# Altium footprint library RF_Comp.PcbLib: 10 footprints
Each footprint in its own frame and in the unit in brackets; x right, y up, seen from the top. Pads: shape width x height; smd on the part's side, far side on the other; paste and mask are expansions set on the pad; w line width, h text height; cw(c..) or ccw(c..) is an arc to the next point about the centre after c.
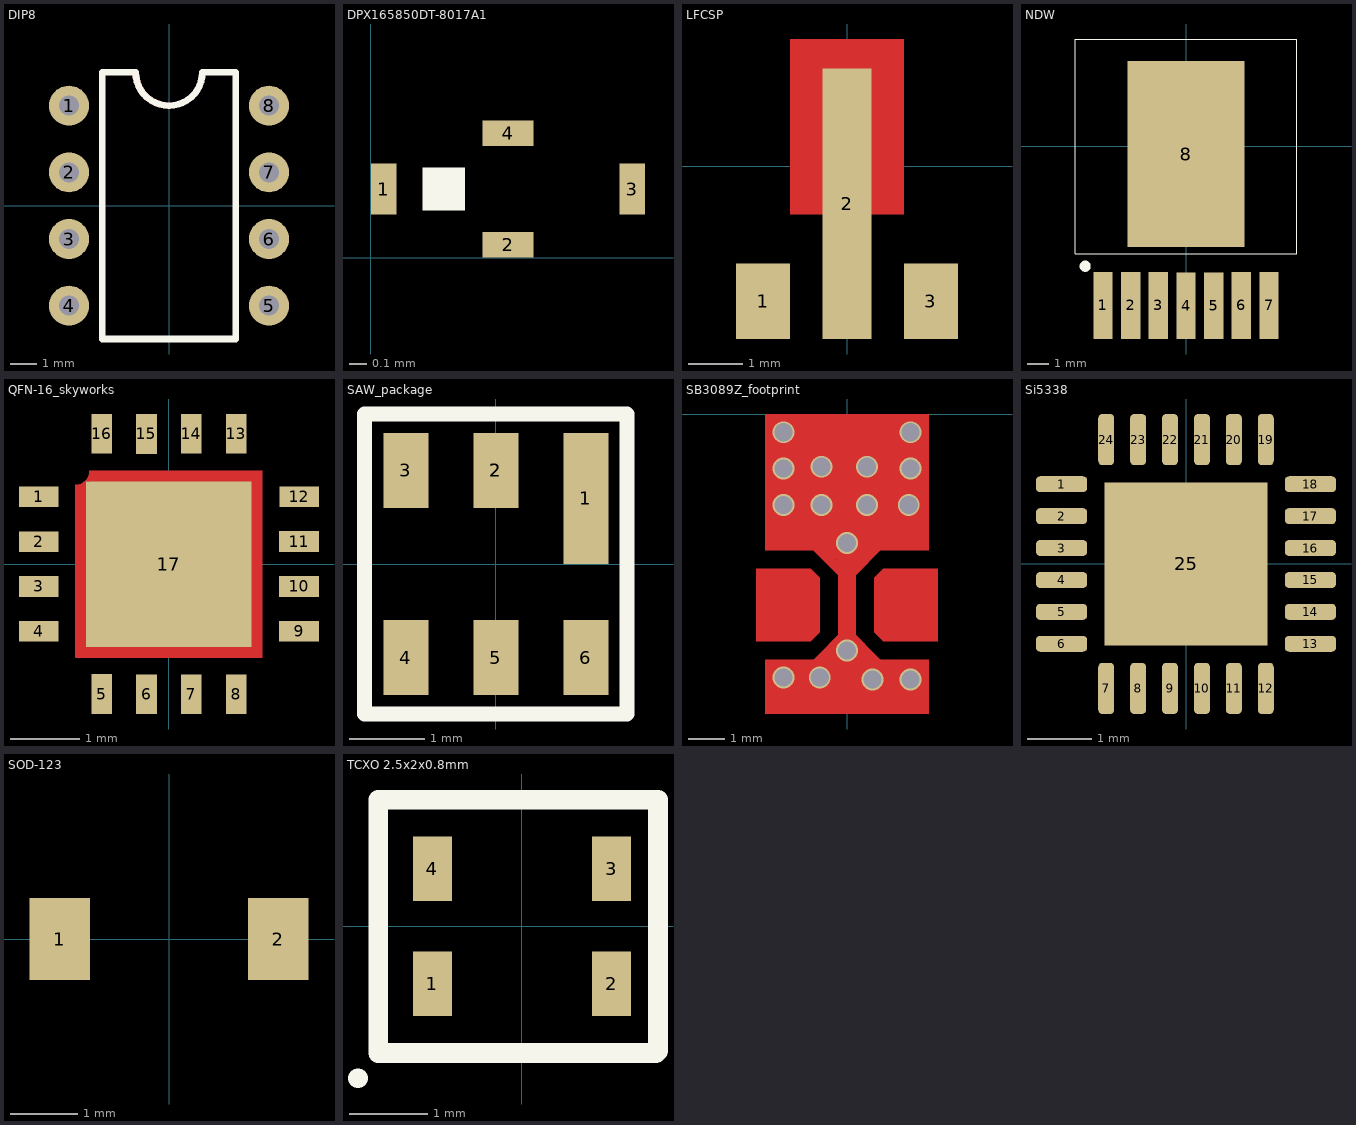
[diagram p0: the footprints below, top view; thin cyan lines are the x and y axes]

## DIP8 [mil]
pads (8):
  round 60 hole 30: 1(-150,150) 2(-150,50) 3(-150,-50) 4(-150,-150) 5(150,-150) 6(150,-50) 7(150,50) 8(150,150)
Top Layer:
  lines w10: -50,200 ccw(c0,200) 0,150
Top Overlay:
  lines w10: -100,-200 -100,200 -50,200 ccw(c0,200) 0,150 ccw(c0,200) 50,200 100,200 100,-200 -100,-200

## DPX165850DT-8017A1 [mm] "Multilayer Diplexer"
pads (4):
  rect 0.15x0.3 smd: 1(0.075,0.4) 3(1.525,0.4)
  rect 0.3x0.15 smd: 2(0.8,0.075) 4(0.8,0.725)
Top Overlay:
  rectangle: 0.3,0.275 0.55,0.525

## LFCSP [mm]
pads (3):
  rect 1x1.4 smd: 1(-1.55,-2.5) 3(1.55,-2.5)
  rect 0.9x5 smd: 2(0,-0.7)
Top Layer:
  rectangle: -1.05,-0.9 1.05,2.35
Top Paste:
  rectangle: -1.05,-0.9 1.05,2.35
Top Solder:
  rectangle: -1.05,-0.9 1.05,2.35

## NDW [mm]
pads (8):
  rect 0.89x3.06 smd: 1(-3.81,-7.3) 2(-2.54,-7.3) 3(-1.27,-7.3) 4(0,-7.31) 5(1.27,-7.31) 6(2.54,-7.3) 7(3.81,-7.3)
  rect 5.35x8.54 smd: 8(0,-0.355)
Top Overlay:
  circle w0.254: c-4.625,-5.5 r0.127
  lines w0.01: -5.08,-4.925 5.08,-4.925 5.08,4.925 -5.08,4.925 -5.08,-4.925

## QFN-16_skyworks [mm]
pads (17):
  rect 0.575x0.3 smd: 1(-1.887,0.975) 2(-1.887,0.324) 3(-1.887,-0.325) 4(-1.887,-0.975) 9(1.887,-0.975) 10(1.887,-0.325) 11(1.887,0.327) 12(1.889,0.975)
  rect 0.3x0.575 smd: 5(-0.975,-1.886) 6(-0.325,-1.888) 7(0.325,-1.888) 8(0.975,-1.888) 13(0.975,1.889) 14(0.325,1.889) 15(-0.326,1.887) 16(-0.975,1.888)
  rect 2.4x2.4 smd: 17(0,0)
Top Layer:
  rectangle: -1.15,1.125 1.35,1.35
  rectangle: 1.175,-1.35 1.35,1.125
  rectangle: -1.35,-1.35 1.175,-1.125
  rectangle: -1.35,-1.225 -1.125,1.15
  rectangle: -1.306,1.15 -1.19,1.156
  rectangle: -1.289,1.154 -1.188,1.162
  rectangle: -1.269,1.157 -1.182,1.169
  rectangle: -1.257,1.166 -1.175,1.175
  rectangle: -1.245,1.173 -1.181,1.181
  rectangle: -1.24,1.178 -1.185,1.185
  rectangle: -1.231,1.183 -1.19,1.191
  rectangle: -1.223,1.187 -1.193,1.195
  rectangle: -1.219,1.187 -1.187,1.202
  rectangle: -1.213,1.197 -1.149,1.209
  rectangle: -1.205,1.201 -1.124,1.214
  rectangle: -1.198,1.203 -1.119,1.222
  rectangle: -1.192,1.214 -1.127,1.231
  rectangle: -1.184,1.22 -1.131,1.24
  rectangle: -1.18,1.229 -1.131,1.247
  rectangle: -1.178,1.235 -1.13,1.251
  rectangle: -1.171,1.246 -1.133,1.267
  rectangle: -1.163,1.259 -1.142,1.283
  rectangle: -1.157,1.276 -1.146,1.305
  lines w0.01: -1.35,-1.35 1.35,-1.35 1.35,1.35 -1.15,1.35 cw(c-1.35,1.35) -1.35,1.15 -1.35,-1.35

## SAW_package [mm]
pads (7):
  rect 0.6x1.75 smd: 1(1.2,0.875)
  rect 0.6x1 smd: 2(0,1.25) 2(0,1.25) 3(-1.2,1.25) 4(-1.2,-1.25) 5(0,-1.25) 6(1.2,-1.25)
Top Overlay:
  lines w0.2: -1.75,-2 -1.75,2 1.75,2 1.75,-2 -1.75,-2

## SB3089Z_footprint [mm]
via 0,-6.5 diameter 0.6 hole 0.5
via -0.75,-7.25 diameter 0.6 hole 0.5
via -1.75,-7.25 diameter 0.6 hole 0.5
via 0.7,-7.3 diameter 0.6 hole 0.5
via 1.75,-7.3 diameter 0.6 hole 0.5
via 0,-3.55 diameter 0.6 hole 0.5
via -1.75,-0.5 diameter 0.6 hole 0.5
via -1.75,-1.5 diameter 0.6 hole 0.5
via -1.75,-2.5 diameter 0.6 hole 0.5
via -0.7,-2.5 diameter 0.6 hole 0.5
via 0.55,-2.5 diameter 0.6 hole 0.5
via 1.7,-2.5 diameter 0.6 hole 0.5
via 1.75,-1.5 diameter 0.6 hole 0.5
via 1.75,-0.5 diameter 0.6 hole 0.5
via 0.55,-1.45 diameter 0.6 hole 0.5
via -0.7,-1.45 diameter 0.6 hole 0.5
Top Layer:
  rectangle: -2.25,-8.25 2.25,-6.75
  rectangle: -0.25,-6.75 0.25,-3.75
  rectangle: -2.25,-3.75 2.25,0
  region: -2.5,-4.25 -1,-4.25 -0.75,-4.5 -0.75,-6 -1,-6.25 -2.5,-6.25
  region: 2.5,-4.25 1,-4.25 0.75,-4.5 0.75,-6 1,-6.25 2.5,-6.25
  lines w0.254: -0.85,-6.85 0,-6 0.85,-6.85 ; -0.844,-3.656 0,-4.5 1,-3.5 ; -0.75,-3.5 -0.563,-3.662 -0.523,-3.66 -0.19,-3.948 -0.188,-3.988 0,-4.15 0.7,-3.45 ; -0.5,-6.85 0,-6.35 0.55,-6.85
  lines w0.5: -1,-7.05 -0.953,-7.052 ; 0.95,-3.5 1,-3.5 ; 0.958,-7.052 1,-7.05

## Si5338 [mm]
pads (25):
  rrect50% 0.8x0.25 smd: 1(-1.95,1.25) 2(-1.95,0.75) 3(-1.95,0.25) 4(-1.95,-0.25) 5(-1.95,-0.75) 6(-1.95,-1.25) 13(1.95,-1.25) 14(1.95,-0.75) 15(1.95,-0.25) 16(1.95,0.25) 17(1.95,0.75) 18(1.95,1.25)
  rrect50% 0.25x0.8 smd: 7(-1.25,-1.95) 8(-0.75,-1.95) 9(-0.25,-1.95) 10(0.25,-1.95) 11(0.75,-1.95) 12(1.25,-1.95) 19(1.25,1.95) 20(0.75,1.95) 21(0.25,1.95) 22(-0.25,1.95) 23(-0.75,1.95) 24(-1.25,1.95)
  rect 2.55x2.55 smd: 25(0,0)

## SOD-123 [mm]
pads (2):
  rect 0.91x1.22 smd: 1(-1.635,0) 2(1.635,0)

## TCXO 2.5x2x0.8mm [mm]
pads (4):
  rect 0.5x0.825 smd: 1(-1.147,-0.737) 2(1.155,-0.737) 3(1.155,0.737) 4(-1.147,0.737)
Top Overlay:
  lines w0.254: -2.1,-1.95 -2.1,-1.95 ; -1.839,-1.625 1.725,-1.625 1.75,-1.6 1.75,1.625 -1.4,1.625 -1.839,1.625 -1.839,-1.625